# Altium footprint library PcbLib1.PcbLib: 41 footprints (part 2 of 3)
Each footprint in its own frame and in the unit in brackets; x right, y up, seen from the top. Pads: shape width x height; smd on the part's side, far side on the other; paste and mask are expansions set on the pad; w line width, h text height; cw(c..) or ccw(c..) is an arc to the next point about the centre after c.
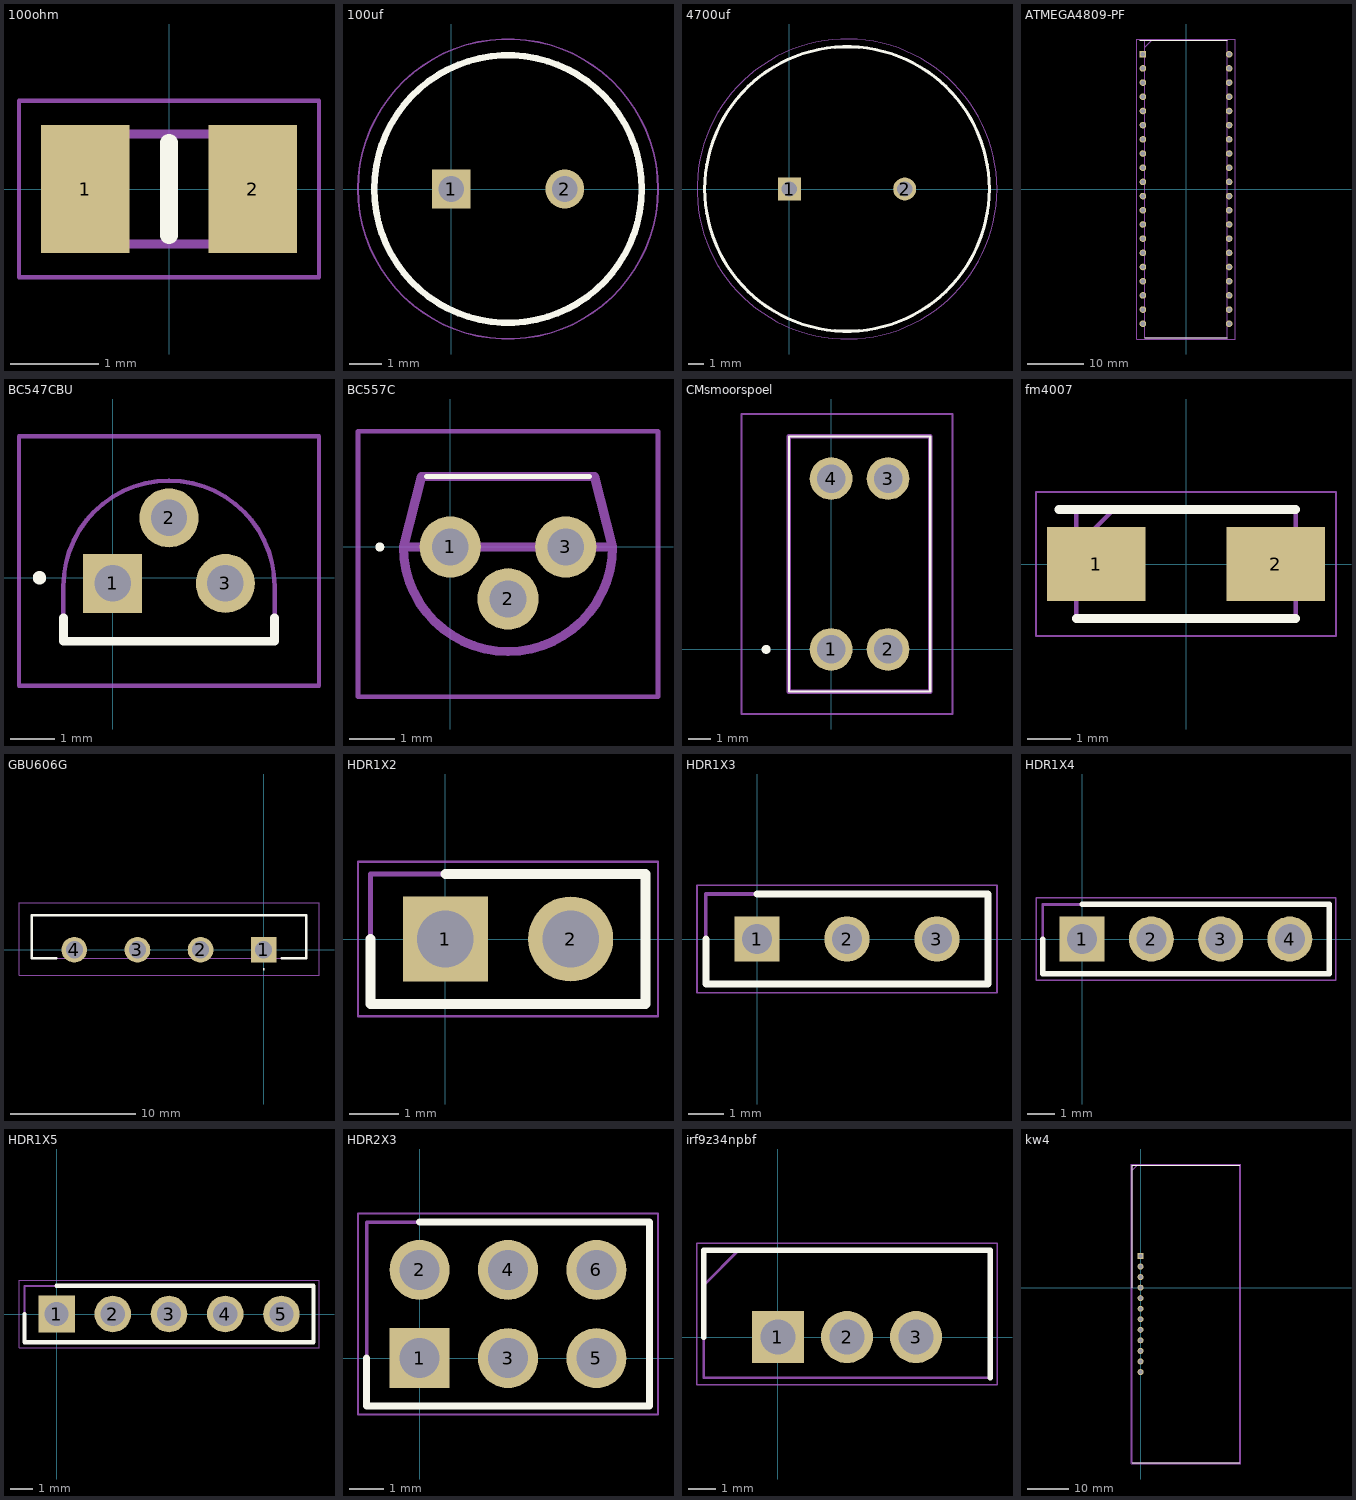
[diagram p1: the footprints below, top view; thin cyan lines are the x and y axes]

## 100ohm [mm]
pads (2):
  rect 1x1.45 smd: 1(-0.95,0) 2(0.95,0)
Top Overlay:
  lines w0.2: 0,-0.525 0,0.525
Mechanical 13:
  lines w0.1: -1,-0.625 -1,0.625 1,0.625 1,-0.625 -1,-0.625
Mechanical 15:
  lines w0.05: -1.7,-1 -1.7,1 1.7,1 1.7,-1 -1.7,-1
3D body "CPF0805B100RE1.stp": height 0.65, standoff 0, extent -1,-0.625 1,0.625

## 100uf [mm]
pads (2):
  rect 1.2x1.2 hole 0.8: 1(0,0)
  round 1.2 hole 0.8: 2(3.5,0)
Top Overlay:
  circle w0.2: c1.75,0 r4.125
Mechanical 13:
  circle w0.1: c1.75,0 r4.125
Mechanical 15:
  circle w0.05: c1.75,0 r4.625

## 4700uf [mm]
pads (2):
  rect 1.5x1.5 hole 1: 1(0,0)
  round 1.5 hole 1: 2(7.5,0)
Top Overlay:
  circle w0.2: c3.75,0 r9.25
Mechanical 13:
  circle w0.1: c3.75,0 r9.25
Mechanical 15:
  circle w0.05: c3.75,0 r9.75

## ATMEGA4809-PF [mm]
pads (40):
  rect 1.184x1.184 hole 0.784: 1(-7.715,24.13)
  round 1.184 hole 0.784: 2(-7.715,21.59) 3(-7.715,19.05) 4(-7.715,16.51) 5(-7.715,13.97) 6(-7.715,11.43) 7(-7.715,8.89) 8(-7.715,6.35) 9(-7.715,3.81) 10(-7.715,1.27) 11(-7.715,-1.27) 12(-7.715,-3.81) 13(-7.715,-6.35) 14(-7.715,-8.89) 15(-7.715,-11.43) 16(-7.715,-13.97) 17(-7.715,-16.51) 18(-7.715,-19.05) 19(-7.715,-21.59) 20(-7.715,-24.13) 21(7.715,-24.13) 22(7.715,-21.59) 23(7.715,-19.05) 24(7.715,-16.51) 25(7.715,-13.97) 26(7.715,-11.43) 27(7.715,-8.89) 28(7.715,-6.35) 29(7.715,-3.81) 30(7.715,-1.27) 31(7.715,1.27) 32(7.715,3.81) 33(7.715,6.35) 34(7.715,8.89) 35(7.715,11.43) 36(7.715,13.97) 37(7.715,16.51) 38(7.715,19.05) 39(7.715,21.59) 40(7.715,24.13)
Top Overlay:
  lines w0.2: -8.307,26.606 7.366,26.606 ; -7.366,-26.606 7.366,-26.606
Mechanical 13:
  lines w0.1: -7.366,25.336 -6.096,26.606 ; -7.366,-26.606 7.366,-26.606 7.366,26.606 -7.366,26.606 -7.366,-26.606
Mechanical 15:
  lines w0.05: -8.78,-26.856 8.78,-26.856 8.78,26.856 -8.78,26.856 -8.78,-26.856
3D body "ATMEGA4809-PF.stp": height 6.35, standoff -3.5, extent -7.861,-25.876 7.861,25.876

## BC547CBU [mm]
pads (3):
  rect 1.333x1.333 hole 0.82: 1(0,-0.127)
  round 1.333 hole 0.82: 2(1.27,1.35) 3(2.54,-0.127)
Top Overlay:
  lines w0.2: -1.11,-0.9 -1.11,-1.43 3.65,-1.43 3.65,-0.9 ; -1.7,0 ccw(c-1.65,0) -1.6,0 ; -1.7,0 cw(c-1.65,0) -1.6,0 ; -1.7,0 ccw(c-1.65,0) -1.6,0
Mechanical 13:
  lines w0.1: -1.11,-1.43 1.27,-1.43 3.65,-1.43 3.65,-0.19 ccw(c1.27,-0.19) -1.11,-0.19 -1.11,-1.43
Mechanical 15:
  lines w0.1: -2.11,-2.43 4.65,-2.43 4.65,3.19 -2.11,3.19 -2.11,-2.43
3D body "BC547CBU.stp": height 5.43, standoff -5, extent -1.11,-1.43 3.65,2.19

## BC557C [mm]
pads (3):
  round 1.35 hole 0.81: 1(0,0) 2(1.27,-1.143) 3(2.54,0)
Top Overlay:
  lines w0.1: -0.53,1.55 3.07,1.55 ; -1.6,0 ccw(c-1.55,0) -1.5,0 ccw(c-1.55,0) -1.6,0
Mechanical 13:
  lines w0.2: -1.03,0 ccw(c1.27,0) 3.57,0 ; -1.03,0 3.57,0 ; -1.03,0 -0.63,1.55 3.17,1.55 3.57,0
Mechanical 15:
  lines w0.1: -2.03,-3.3 4.57,-3.3 4.57,2.55 -2.03,2.55 -2.03,-3.3

## CMsmoorspoel [mm]
pads (4):
  round 1.905 hole 1.27: 1(0,0) 2(2.54,0) 3(2.54,7.62) 4(0,7.62)
Top Overlay:
  lines w0.1: -1.88,-1.88 4.42,-1.88 4.42,9.5 -1.88,9.5 -1.88,-1.88
  lines w0.2: -3,0 ccw(c-2.9,0) -2.8,0 ccw(c-2.9,0) -3,0
Mechanical 13:
  lines w0.2: -1.88,-1.88 4.42,-1.88 4.42,9.5 -1.88,9.5 -1.88,-1.88
Mechanical 15:
  lines w0.1: -4,-2.88 5.42,-2.88 5.42,10.5 -4,10.5 -4,-2.88
3D body "CM2545X171B-10.stp": height 9.6, standoff -5, extent -1.88,-1.88 4.42,9.5

## fm4007 [mm]
pads (2):
  rect 2.25x1.7 smd: 1(-2.05,0) 2(2.05,0)
Top Overlay:
  lines w0.2: -2.9,1.242 2.502,1.242 ; -2.502,-1.242 2.502,-1.242
Mechanical 13:
  lines w0.1: -2.502,0.392 -1.652,1.242 ; -2.502,-1.242 -2.502,1.242 2.502,1.242 2.502,-1.242 -2.502,-1.242
Mechanical 15:
  lines w0.05: -3.425,-1.645 -3.425,1.645 3.425,1.645 3.425,-1.645 -3.425,-1.645
3D body "FM4007W-W.stp": height 2.31, standoff 0, extent -2.502,-1.242 2.502,1.242

## GBU606G [mm]
pads (4):
  rect 2.055x2.055 hole 1.37: 1(0,0)
  round 2.055 hole 1.37: 2(-5.05,0) 3(-10.1,0) 4(-15.15,0)
Top Overlay:
  lines w0.1: 0,-1.6 ccw(c0,-1.55) 0,-1.5 ccw(c0,-1.55) 0,-1.6
  lines w0.2: -16.575,-0.695 -18.575,-0.695 -18.575,2.755 3.425,2.755 3.425,-0.695 1.425,-0.695
Mechanical 13:
  lines w0.1: -18.575,-0.695 -18.575,2.755 3.425,2.755 3.425,-0.695 -18.575,-0.695
Mechanical 15:
  lines w0.1: -19.575,-2.027 -19.575,3.755 4.425,3.755 4.425,-2.027 -19.575,-2.027
3D body "GBU606-G.stp": height 21.05, standoff -5, extent -18.575,-0.695 3.425,2.755

## HDR1X2 [mm]
pads (2):
  rect 1.725x1.725 hole 1.15: 1(0,0)
  round 1.725 hole 1.15: 2(2.54,0)
Top Overlay:
  lines w0.2: -1.52,0 -1.52,-1.32 4.06,-1.32 4.06,1.32 0,1.32
Mechanical 13:
  lines w0.1: -1.52,-1.32 4.06,-1.32 4.06,1.32 -1.52,1.32 -1.52,-1.32
Mechanical 15:
  lines w0.05: -1.77,-1.57 4.31,-1.57 4.31,1.57 -1.77,1.57 -1.77,-1.57
3D body "M20-9990246.stp": height 8.74, standoff -3, extent -1.27,-1.27 3.81,1.27

## HDR1X3 [mm]
pads (3):
  rect 1.275x1.275 hole 0.85: 1(0,0)
  round 1.275 hole 0.85: 2(2.54,0) 3(5.08,0)
Top Overlay:
  lines w0.2: -1.445,0 -1.445,-1.27 6.525,-1.27 6.525,1.27 0,1.27
Mechanical 13:
  lines w0.1: -1.445,-1.27 -1.445,1.27 6.525,1.27 6.525,-1.27 -1.445,-1.27
Mechanical 15:
  lines w0.05: -1.695,-1.52 -1.695,1.52 6.775,1.52 6.775,-1.52 -1.695,-1.52
3D body "M20-9990345.stp": height 8.64, standoff -3, extent -1.27,-1.27 6.35,1.27

## HDR1X4 [mm]
pads (4):
  rect 1.65x1.65 hole 1.1: 1(0,0)
  round 1.65 hole 1.1: 2(2.54,0) 3(5.08,0) 4(7.62,0)
Top Overlay:
  lines w0.2: -1.445,0 -1.445,-1.27 9.065,-1.27 9.065,1.27 0,1.27
Mechanical 13:
  lines w0.1: -1.445,-1.27 -1.445,1.27 9.065,1.27 9.065,-1.27 -1.445,-1.27
Mechanical 15:
  lines w0.05: -1.695,-1.52 -1.695,1.52 9.315,1.52 9.315,-1.52 -1.695,-1.52
3D body "M20-9770446.stp": height 8.34, standoff -3.1, extent -1.27,-1.27 8.89,1.27

## HDR1X5 [mm]
pads (5):
  rect 1.65x1.65 hole 1.1: 1(0,0)
  round 1.65 hole 1.1: 2(2.54,0) 3(5.08,0) 4(7.62,0) 5(10.16,0)
Top Overlay:
  lines w0.2: -1.445,0 -1.445,-1.27 11.605,-1.27 11.605,1.27 0,1.27
Mechanical 13:
  lines w0.1: -1.445,-1.27 11.605,-1.27 11.605,1.27 -1.445,1.27 -1.445,-1.27
Mechanical 15:
  lines w0.05: -1.695,-1.52 11.855,-1.52 11.855,1.52 -1.695,1.52 -1.695,-1.52
3D body "M20-9990545.stp": height 8.64, standoff -3, extent -1.27,-1.27 11.43,1.27

## HDR2X3 [mm]
pads (6):
  rect 1.725x1.725 hole 1.15: 1(0,0)
  round 1.725 hole 1.15: 2(0,2.54) 3(2.54,0) 4(2.54,2.54) 5(5.08,0) 6(5.08,2.54)
Top Overlay:
  lines w0.2: -1.52,0 -1.52,-1.37 6.6,-1.37 6.6,3.91 0,3.91
Mechanical 13:
  lines w0.1: -1.52,-1.37 6.6,-1.37 6.6,3.91 -1.52,3.91 -1.52,-1.37
Mechanical 15:
  lines w0.05: -1.77,-1.62 6.85,-1.62 6.85,4.16 -1.77,4.16 -1.77,-1.62
3D body "M20-9760342.stp": height 8.38, standoff -3.1, extent -1.27,-1.27 6.35,3.81

## irf9z34npbf [mm]
pads (3):
  rect 1.92x1.92 hole 1.28: 1(0,0)
  round 1.92 hole 1.28: 2(2.54,0) 3(5.08,0)
Top Overlay:
  lines w0.2: -2.73,0 -2.73,3.195 7.81,3.195 7.81,-1.495
Mechanical 13:
  lines w0.1: -2.73,1.925 -1.46,3.195 ; -2.73,-1.495 7.81,-1.495 7.81,3.195 -2.73,3.195 -2.73,-1.495
Mechanical 15:
  lines w0.05: -2.98,-1.745 8.06,-1.745 8.06,3.445 -2.98,3.445 -2.98,-1.745
3D body "IRF9Z34NPBF.stp": height 18.84, standoff -17.51, extent -2.668,-1.495 7.748,3.195

## kw4 [mm]
pads (12):
  rect 1.425x1.425 hole 0.95: 1(0,7.62)
  round 1.425 hole 0.95: 2(0,5.08) 3(0,2.54) 4(0,0) 5(0,-2.54) 6(0,-5.08) 7(0,-7.62) 8(0,-10.16) 9(0,-12.7) 10(0,-15.24) 11(0,-17.78) 12(0,-20.32)
Top Overlay:
  lines w0.2: -2.025,-42.225 23.925,-42.225 ; -2.025,0 -2.025,29.525 23.925,29.525
Mechanical 13:
  lines w0.1: -2.025,28.255 -0.755,29.525 ; -2.025,-42.225 23.925,-42.225 23.925,29.525 -2.025,29.525 -2.025,-42.225
Mechanical 15:
  lines w0.05: -2.275,-42.475 24.175,-42.475 24.175,29.775 -2.275,29.775 -2.275,-42.475